# Altium integrated library Display.IntLib: 12 symbols
Pins are listed as number, name and electrical type; pins without a type are passive.

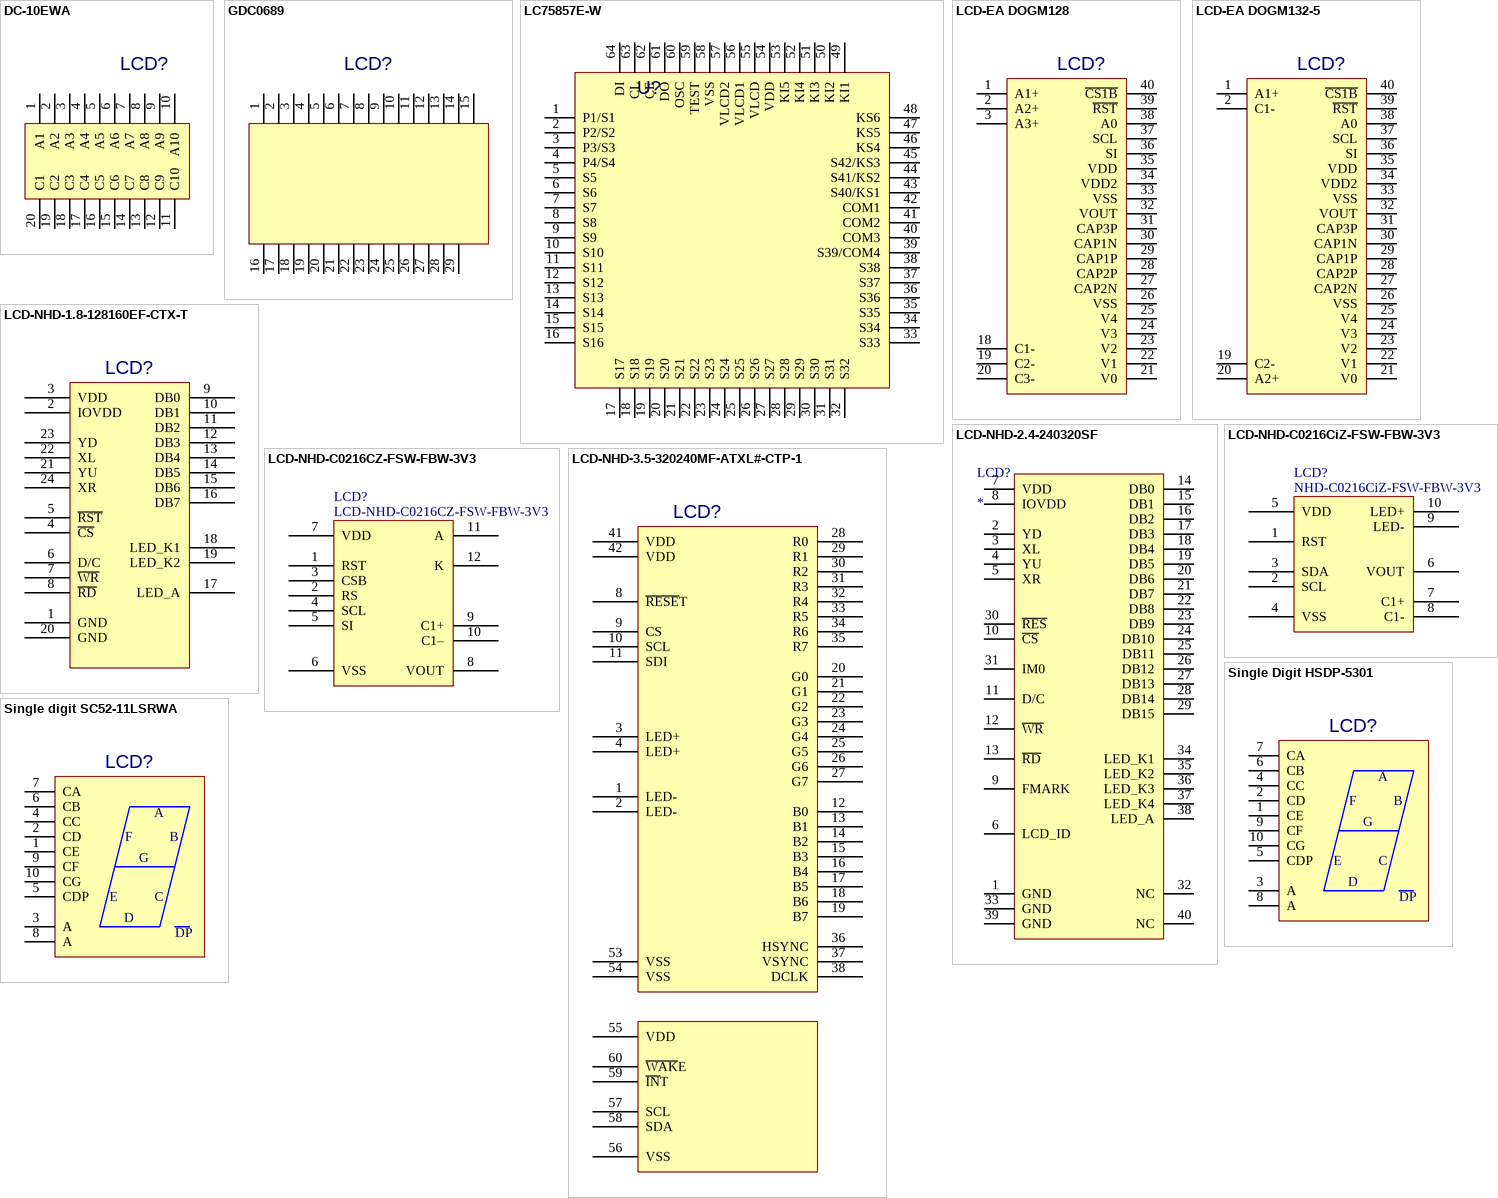
[diagram p0: symbols DC-10EWA to Single digit SC52-11LSRWA]

## DC-10EWA
designator LCD?, comment HSDP-5301  (value not drawn)
Kingbright 10 Segment Bar Graph Arrays; Value: HSDP-5301
footprint DC-10EWA (Kingbright - 10 SEGMENT BAR GRAPH ARRAYS)
pins: 1 A1, 2 A2, 3 A3, 4 A4, 5 A5, 6 A6, 7 A7, 8 A8, 9 A9, 10 A10, 11 C10, 12 C9, 13 C8, 14 C7, 15 C6, 16 C5, 17 C4, 18 C3, 19 C2, 20 C1

## GDC0689
designator LCD?  (value not drawn)
Dalian Good Display GDC0689; Value: GDC0689
footprint GDC0689 (Dalian Good Display GDC0689)
pins: 1, 2, 3, 4, 5, 6, 7, 8, 9, 10, 11, 12, 13, 14, 15, 16, 17, 18, 19, 20, 21, 22, 23, 24, 25, 26, 27, 28, 29

## LC75857E-W
designator U?, comment LC75857x  (value not drawn)
1/3, 1/4 Duty LCD Driver with Key Input Function; Value: LC75857x
footprint SQFP64 (SQFP, 64-Leads, Body 10.00x10.00mm, Pitch 0.50mm)
pins: 1 P1/S1, 2 P2/S2, 3 P3/S3, 4 P4/S4, 5 S5, 6 S6, 7 S7, 8 S8, 9 S9, 10 S10, 11 S11, 12 S12, 13 S13, 14 S14, 15 S15, 16 S16, 17 S17, 18 S18, 19 S19, 20 S20, 21 S21, 22 S22, 23 S23, 24 S24, 25 S25, 26 S26, 27 S27, 28 S28, 29 S29, 30 S30, 31 S31, 32 S32, 33 S33, 34 S34, 35 S35, 36 S36, 37 S37, 38 S38, 39 S39/COM4, 40 COM3, 41 COM2, 42 COM1, 43 S40/KS1, 44 S41/KS2, 45 S42/KS3, 46 KS4, 47 KS5, 48 KS6, 49 KI1, 50 KI2, 51 KI3, 52 KI4, 53 KI5, 54 VDD, 55 VLCD, 56 VLCD1, 57 VLCD2, 58 VSS, 59 TEST, 60 OSC, 61 DO, 62 CE, 63 CL, 64 DI

## LCD-EA DOGM128
designator LCD?, comment EA DOGM132-5  (value not drawn)
EA DOGM GRAPHIC SERIES 128x64 DOTS; Value: EA DOGM132-5
footprint EA DOGM128 (DOGM GRAPHIC SERIES 128x64 DOTS)
pins: 1 A1+, 2 A2+, 3 A3+, 18 C1-, 19 C2-, 20 C3-, 21 V0, 22 V1, 23 V2, 24 V3, 25 V4, 26 VSS, 27 CAP2N, 28 CAP2P, 29 CAP1P, 30 CAP1N, 31 CAP3P, 32 VOUT, 33 VSS, 34 VDD2, 35 VDD, 36 SI, 37 SCL, 38 A0, 39 ~{RST}, 40 ~{CS1B}

## LCD-EA DOGM132-5
designator LCD?, comment EA DOGM132-5  (value not drawn)
EA DOGM GRAPHIC SERIES 132x32 DOTS; Value: EA DOGM132-5
footprint EA DOGM132-5 (DOGM GRAPHIC SERIES 132x32 DOTS)
pins: 1 A1+, 2 C1-, 19 C2-, 20 A2+, 21 V0, 22 V1, 23 V2, 24 V3, 25 V4, 26 VSS, 27 CAP2N, 28 CAP2P, 29 CAP1P, 30 CAP1N, 31 CAP3P, 32 VOUT, 33 VSS, 34 VDD2, 35 VDD, 36 SI, 37 SCL, 38 A0, 39 ~{RST}, 40 ~{CS1B}

## LCD-NHD-1.8-128160EF-CTX-T
designator LCD?  (value not drawn)
NEWHEAVEN LCD; Value: LCD-NHD-1.8-128160EF-CTX-T
footprint LCD-NHD-1.8-128160EF-CTX-T
pins: 1 GND, 2 IOVDD, 3 VDD, 4 ~{CS}, 5 ~{RST}, 6 D/C, 7 ~{WR}, 8 ~{RD}, 9 DB0, 10 DB1, 11 DB2, 12 DB3, 13 DB4, 14 DB5, 15 DB6, 16 DB7, 17 LED_A, 18 LED_K1, 19 LED_K2, 20 GND, 21 YU, 22 XL, 23 YD, 24 XR

## LCD-NHD-2.4-240320SF
designator LCD?
NEWHEAVEN LCD; Value: LCD-NHD-2.4-240320SF
footprint LCD-NHD-2.4-240320SF
pins: 1 GND, 2 YD, 3 XL, 4 YU, 5 XR, 6 LCD_ID, 7 VDD, 8 IOVDD, 9 FMARK, 10 ~{CS}, 11 D/C, 12 ~{WR}, 13 ~{RD}, 14 DB0, 15 DB1, 16 DB2, 17 DB3, 18 DB4, 19 DB5, 20 DB6, 21 DB7, 22 DB8, 23 DB9, 24 DB10, 25 DB11, 26 DB12, 27 DB13, 28 DB14, 29 DB15, 30 ~{RES}, 31 IM0, 32 NC, 33 GND, 34 LED_K1, 35 LED_K2, 36 LED_K3, 37 LED_K4, 38 LED_A, 39 GND, 40 NC

## LCD-NHD-C0216CiZ-FSW-FBW-3V3
designator LCD?, comment NHD-C0216CiZ-FSW-FBW-3V3
NEWHEAVEN LCD; Value: NHD-C0216CiZ-FSW-FBW-3V3
footprint LCD-NHD-C0216CiZ-FSW-FBW-3V3
pins: 1 RST, 2 SCL, 3 SDA, 4 VSS, 5 VDD, 6 VOUT, 7 C1+, 8 C1-, 9 LED-, 10 LED+

## LCD-NHD-C0216CZ-FSW-FBW-3V3
designator LCD?
NEWHEAVEN LCD; Value: LCD-NHD-C0216CZ-FSW-FBW-3V3
footprint LCD-NHD-C0216CZ-FSW-FBW-3V3
pins: 1 RST, 2 RS, 3 CSB, 4 SCL, 5 SI, 6 VSS, 7 VDD, 8 VOUT, 9 C1+, 10 C1–, 11 A, 12 K

## LCD-NHD‐3.5‐320240MF‐ATXL#‐CTP‐1
designator LCD?, comment LCD-NHD-1.8-128160EF-CTX-T  (value not drawn)
NEWHEAVEN LCD; Value: LCD-NHD-1.8-128160EF-CTX-T
footprint LCD-NHD-3.5-320240MF-ATXL#-CTP-1
pins: 1 LED-, 2 LED-, 3 LED+, 4 LED+, 8 ~{RESE}T, 9 CS, 10 SCL, 11 SDI, 12 B0, 13 B1, 14 B2, 15 B3, 16 B4, 17 B5, 18 B6, 19 B7, 20 G0, 21 G1, 22 G2, 23 G3, 24 G4, 25 G5, 26 G6, 27 G7, 28 R0, 29 R1, 30 R2, 31 R3, 32 R4, 33 R5, 34 R6, 35 R7, 36 HSYNC, 37 VSYNC, 38 DCLK, 41 VDD, 42 VDD, 53 VSS, 54 VSS, 55 VDD, 56 VSS, 57 SCL, 58 SDA, 59 ~{IN}T, 60 ~{WAK}E

## Single Digit HSDP-5301
designator LCD?, comment HSDP-5301  (value not drawn)
Single Digit  Seven Segment Displays; Value: HSDP-5301
footprint Single Digit  7 SEGMENTS (LCD - 7 SEGMENTS - 12.6/17.0)
pins: 1 CE, 2 CD, 3 A, 4 CC, 5 CDP, 6 CB, 7 CA, 8 A, 9 CF, 10 CG
text: F; B; G; E; C; D; DP

## Single digit SC52-11LSRWA
designator LCD?, comment SC52-11LSRWA  (value not drawn)
Single Digit Seven Segment Display. Kingbright no. SC52-11LSRWA; Value: SC52-11LSRWA
footprint Single Digit Kingbright Kingbright SC52-11LSRWA (Single Digit Seven Segment Display. Kingbright no. SC52-11LSRWA)
pins: 1 CE, 2 CD, 3 A, 4 CC, 5 CDP, 6 CB, 7 CA, 8 A, 9 CF, 10 CG
text: F; B; G; E; C; D; DP